# EAGLE library part S15B-PH-SM*-TB (library nerd100)
connecter header vender: JST pin pitch: 2.0mm pins: 15 angle: right angle mount: SMD
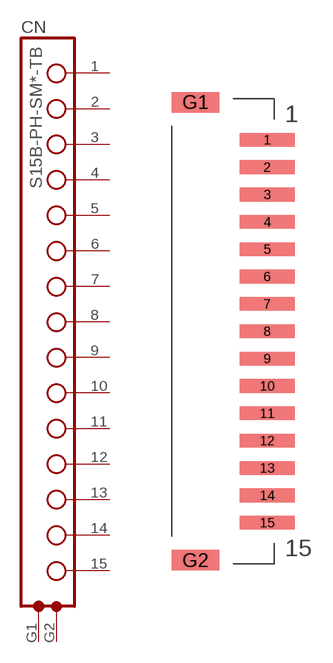
[diagram p0: symbol with the pads of S15B-PH-SM*-TB; footprint S15B-PH-SM*-TB]

Designator prefix CN

## S15B-PH-SM-TBS15B-PH-SM3-TB  [S15B-PH-SM*-TB]
1  $1  pas
2  $2  pas
3  $3  pas
4  $4  pas
5  $5  pas
6  $6  pas
7  $7  pas
8  $8  pas
9  $9  pas
10  $10  pas
11  $11  pas
12  $12  pas
13  $13  pas
14  $14  pas
15  $15  pas
G1  P$1  pas
G2  P$2  pas

## S15B-PH-SM-TBS15B-PH-SM4-TB  [S15B-PH-SM*-TB]
Pads as for S15B-PH-SM*-TB

## Footprint S15B-PH-SM*-TB (pad centres in mm)
smd 4 x 1: 1 0,0; 2 0,-2; 3 0,-4; 4 0,-6; 5 0,-8; 6 0,-10; 7 0,-12; 8 0,-14; 9 0,-16; 10 0,-18; 11 0,-20; 12 0,-22; 13 0,-24; 14 0,-26; 15 0,-28
smd 3.5 x 1.5: G1 -5.25,2.751; G2 -5.25,-30.75